# EAGLE library part HE10-F-2X5 (library JLB6_Connec)
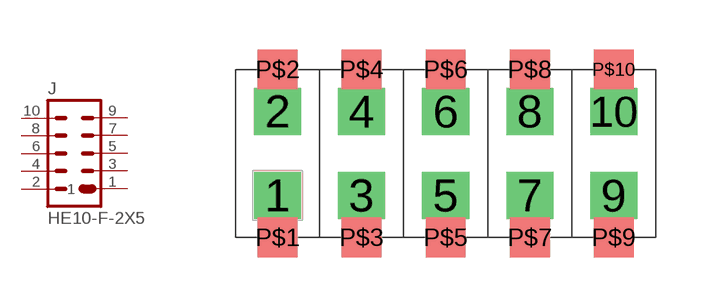
[diagram p40: symbol with the pads of 2X5-MIXTE; footprint 2X5-MIXTE]

Designator prefix J

## HE10-F-2X5  [2X5-MIXTE]
1  1  pas
2  2  pas
3  3  pas
4  4  pas
5  5  pas
6  6  pas
7  7  pas
8  8  pas
9  9  pas
10  10  pas

## Footprint 2X5-MIXTE (pad centres in mm)
drill 0.914 square: 1 -5.08,-1.27; 2 -5.08,1.27; 3 -2.54,-1.27; 4 -2.54,1.27; 5 0,-1.27; 6 0,1.27; 7 2.54,-1.27; 8 2.54,1.27; 9 5.08,-1.27; 10 5.08,1.27
smd 1.2 x 1.2: P$1 -5.08,-2.54; P$2 -5.08,2.54; P$3 -2.54,-2.54; P$4 -2.54,2.54; P$5 0,-2.54; P$6 0,2.54; P$7 2.54,-2.54; P$8 2.54,2.54; P$9 5.08,-2.54; P$10 5.08,2.54